# Altium schematic symbol library MyLib.SCHLIB: 1 symbol
Pins are listed as number, name and electrical type; pins without a type are passive.

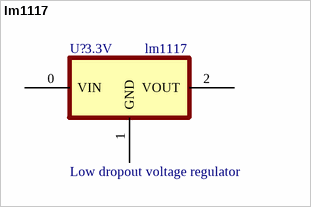
[diagram p0: symbol lm1117]

## lm1117
designator U?, comment Low dropout voltage regulator  Modelo: lm1117  output voltage: 3.3V
The LM1117 is a low dropout voltage regulator with a / dropout of 1.2 V at 800 mA of load current. / The LM1117 is available in an adjustable version, / which can set the output voltage from 1.25 V to 13.8 V / with only two external resistors. In addition, the device / is available in five fixed voltages, 1.8 V, 2.5 V, 3.3 V, / and 5 V.; ComponentLink1Description: Datasheet; ComponentLink1URL: https://www.bing.com/ck/a?!&&p=a5a244ffbc41c431JmltdHM9MTY5MTc5ODQwMCZpZ3VpZD0zMWY2OWVhOS1hOGQ2LTYwMDQtMGU2MC04Y2M4YTk3ZTYxNDYmaW5zaWQ9NTE5NA&ptn=3&hsh=3&fclid=31f69ea9-a8d6-6004-0e60-8cc8a97e6146&psq=lm1117+pdf&u=a1aHR0cHM6Ly93d3cudGkuY29tL2xpdC9kcy9zeW1saW5rL2xtMTExNy5wZGY&ntb=1
footprint 4-Pin SOT (lm1117)
pins: 0 VIN, 1 GND, 2 VOUT